# EAGLE library part MOTEINO (library LowPowerLab)
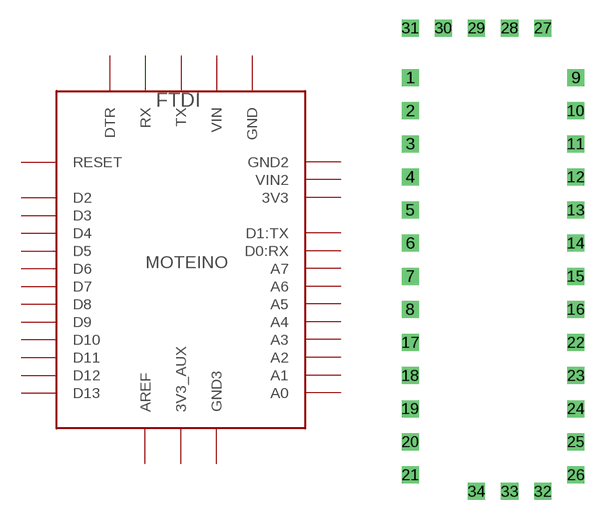
[diagram p8: symbol with the pads of MOTEINO; footprint MOTEINO]

Designator prefix PREFICS

## MOTEINO  [MOTEINO]
1  3V3
2  3V3_AUX
3  A0
4  A1
5  A2
6  A3
7  A4
8  A5
9  A6
10  A7
11  AREF
12  D0:RX
13  D1:TX
14  D2
15  D3
16  D4
17  D5
18  D6
19  D7
20  D8
21  D9
22  D10
23  D11
24  D12
25  D13
26  DTR
27  GND
28  GND2
29  GND3
30  RESET
31  RX
32  TX
33  VIN
34  VIN2

## Footprint MOTEINO (pad centres in mm)
drill 0.8 square: 1 -6.35,11.43; 2 -6.35,8.89; 3 -6.35,6.35; 4 -6.35,3.81; 5 -6.35,1.27; 6 -6.35,-1.27; 7 -6.35,-3.81; 8 -6.35,-6.35; 9 6.35,11.43; 10 6.35,8.89; 11 6.35,6.35; 12 6.35,3.81; 13 6.35,1.27; 14 6.35,-1.27; 15 6.35,-3.81; 16 6.35,-6.35; 17 -6.35,-8.89; 18 -6.35,-11.43; 19 -6.35,-13.97; 20 -6.35,-16.51; 21 -6.35,-19.05; 22 6.35,-8.89; 23 6.35,-11.43; 24 6.35,-13.97; 25 6.35,-16.51; 26 6.35,-19.05; 27 3.81,15.24; 28 1.27,15.24; 29 -1.27,15.24; 30 -3.81,15.24; 31 -6.35,15.24; 32 3.81,-20.32; 33 1.27,-20.32; 34 -1.27,-20.32